# EAGLE library part L298 (library st-microelectronics_martin)
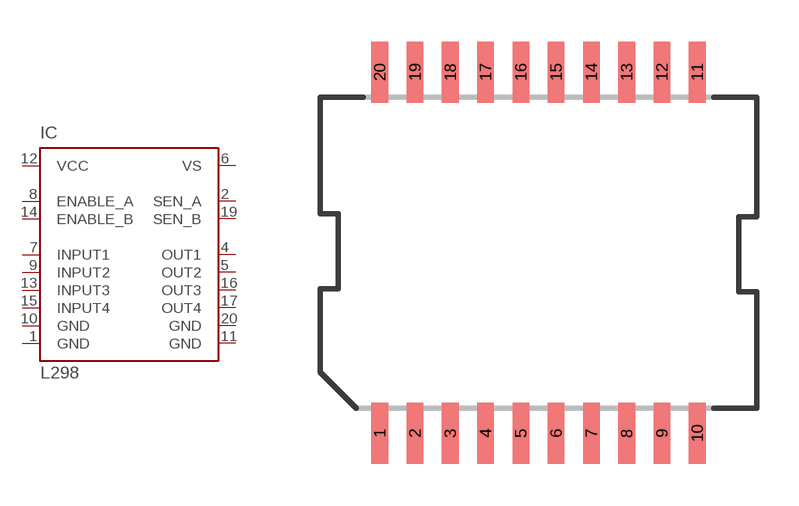
[diagram p1: symbol with the pads of POWERSO-20; footprint POWERSO-20]

Designator prefix IC

## L298P  [POWERSO-20]
1  GND  pwr
2  SEN_A  in
4  OUT1  out
5  OUT2  out
6  VS  pwr
7  INPUT1  in
8  ENABLE_A  in
9  INPUT2  in
10  GND  pwr
11  GND  pwr
12  VCC  pwr
13  INPUT3  in
14  ENABLE_B  in
15  INPUT4  in
16  OUT3  out
17  OUT4  out
19  SEN_B  in
20  GND  pwr

## Footprint POWERSO-20 (pad centres in mm)
Power Small Outline
smd 0.6 x 2.2: 1 -5.715,-6.5; 2 -4.445,-6.5; 3 -3.175,-6.5; 4 -1.905,-6.5; 5 -0.635,-6.5; 6 0.635,-6.5; 7 1.905,-6.5; 8 3.175,-6.5; 9 4.445,-6.5; 10 5.715,-6.5; 11 5.715,6.5; 12 4.445,6.5; 13 3.175,6.5; 14 1.905,6.5; 15 0.635,6.5; 16 -0.635,6.5; 17 -1.905,6.5; 18 -3.175,6.5; 19 -4.445,6.5; 20 -5.715,6.5